# EAGLE library part ISL83490 (library intersil)
IC TXRX RS485/422 3.3V LP
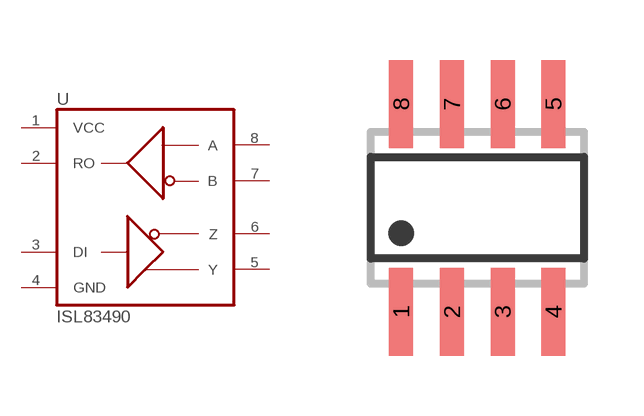
[diagram p8: symbol with the pads of SO08; footprint SO08]

Designator prefix U

## ISL83490B  [SO08]
1  VCC  pwr
2  RO  out
3  DI  in
4  GND  pwr
5  Y
6  Z
7  B
8  A

## Footprint SO08 (pad centres in mm)
SMALL OUTLINE INTEGRATED CIRCUIT body 3.9 mm/JEDEC MS-012AA
smd 0.6 x 2.2: 1 -1.905,-2.6; 2 -0.635,-2.6; 3 0.635,-2.6; 4 1.905,-2.6; 5 1.905,2.6; 6 0.635,2.6; 7 -0.635,2.6; 8 -1.905,2.6